# Altium footprint library L-Stick.PcbLib: 29 footprints (part 2 of 2)
Each footprint in its own frame and in the unit in brackets; x right, y up, seen from the top. Pads: shape width x height; smd on the part's side, far side on the other; paste and mask are expansions set on the pad; w line width, h text height; cw(c..) or ccw(c..) is an arc to the next point about the centre after c.
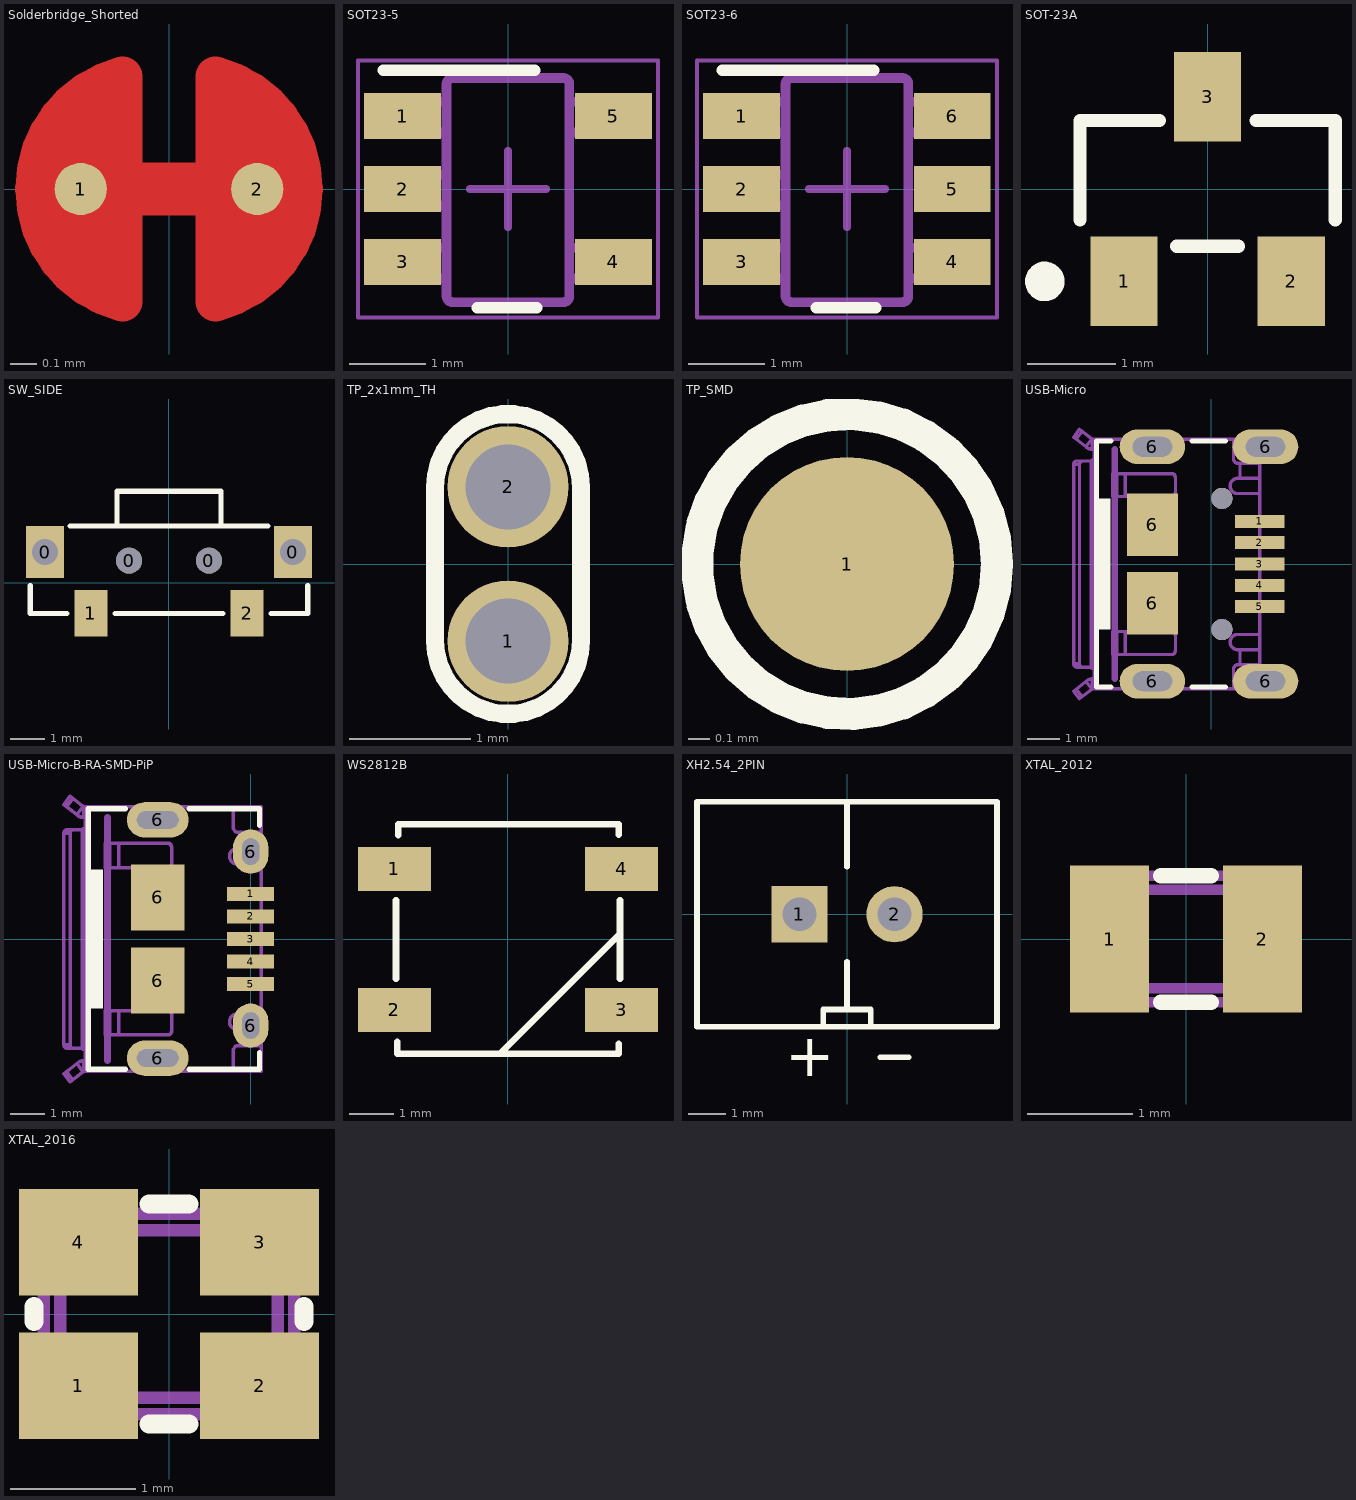
[diagram p1: the footprints below, top view; thin cyan lines are the x and y axes]

## Solderbridge_Shorted [mm]
pads (2):
  round 0.2 smd paste-10: 1(-0.338,0) 2(0.338,0)
Top Layer:
  region: 0.102,0.432 0.178,0.505 0.296,0.467 0.361,0.424 0.434,0.351 0.488,0.292 0.546,0.193 0.574,0.099 0.569,-0.122 0.544,-0.193 0.46,-0.33 0.376,-0.411 0.284,-0.469 0.183,-0.5 0.132,-0.483 0.102,-0.43
  region: -0.102,-0.432 -0.178,-0.505 -0.296,-0.467 -0.361,-0.424 -0.434,-0.351 -0.488,-0.292 -0.546,-0.193 -0.574,-0.099 -0.569,0.122 -0.544,0.193 -0.46,0.33 -0.376,0.411 -0.284,0.469 -0.183,0.5 -0.132,0.483 -0.102,0.43
  lines w0.152: -0.178,-0.431 cw(c-0.068,0) -0.178,0.431 ; 0.178,-0.431 ccw(c0.068,0) 0.178,0.431
  lines w0.203: -0.338,0 0.338,0
Top Solder:
  circle w0.61: c-0.028,0 r0.279
  circle w0.61: c0.028,0 r0.279

## SOT23-5 [mm]
pads (5):
  rect 1x0.6 smd paste+0 mask+0.051: 1(-1.375,0.95) 2(-1.375,0) 3(-1.375,-0.95) 4(1.375,-0.95) 5(1.375,0.95)
Top Overlay:
  lines w0.15: -1.625,1.55 0.35,1.55 ; -0.4,-1.55 0.375,-1.55
Mechanical 13:
  lines w0.127: -0.801,1.371 cw(c-0.725,1.37) -0.725,1.446 ; -0.801,1.37 -0.801,-1.399 -0.801,-1.4 ccw(c-0.725,-1.399) -0.725,-1.475 ; -0.801,1.37 -0.801,1.371 ; -0.725,-1.475 -0.725,-1.475 ; -0.725,-1.475 0.723,-1.475 0.724,-1.475 ccw(c0.723,-1.399) 0.799,-1.4 0.799,-1.399 0.799,1.37 ; -0.725,1.446 0.723,1.446 0.724,1.446 cw(c0.723,1.37) 0.799,1.371 ; -0.725,1.446 -0.725,1.446 ; 0.799,1.37 0.799,1.371 ; -1.423,-1.167 -1.199,-1.167 -1.105,-1.167 -1.088,-1.167 -0.835,-1.167 -0.801,-1.167 -0.801,-0.767 -0.835,-0.767 -1.088,-0.767 -1.105,-0.767 -1.199,-0.767 -1.423,-0.767 -1.423,-1.167 ; -1.423,-0.215 -1.199,-0.215 -1.105,-0.215 -1.088,-0.215 -0.835,-0.215 -0.801,-0.215 -0.801,0.186 -0.835,0.186 -1.088,0.186 -1.105,0.186 -1.199,0.186 -1.423,0.186 -1.423,-0.215 ; -1.423,0.738 -1.199,0.738 -1.105,0.738 -1.088,0.738 -0.835,0.738 -0.801,0.738 -0.801,1.138 -0.835,1.138 -1.088,1.138 -1.105,1.138 -1.199,1.138 -1.423,1.138 -1.423,0.738 ; 0.799,-1.167 0.799,-0.767 0.834,-0.767 1.087,-0.767 1.103,-0.767 1.198,-0.767 1.422,-0.767 1.422,-1.167 1.198,-1.167 1.103,-1.167 1.087,-1.167 0.834,-1.167 0.799,-1.167 ; 0.799,0.738 0.799,1.138 0.834,1.138 1.087,1.138 1.103,1.138 1.198,1.138 1.422,1.138 1.422,0.738 1.198,0.738 1.103,0.738 1.087,0.738 0.834,0.738 0.799,0.738
Mechanical 15:
  lines w0.05: -1.956,-1.676 1.956,-1.676 1.956,1.676 -1.956,1.676 -1.956,-1.676
  lines w0.1: -0.5,0 0.5,0 ; 0,-0.5 0,0.5
3D body: height 1.05, standoff -0.05, extent -1.23,-1.5 1.27,1.5

## SOT23-6 [mm]
pads (6):
  rect 1x0.6 smd paste+0 mask+0.051: 1(-1.375,0.95) 2(-1.375,0) 3(-1.375,-0.95) 4(1.372,-0.95) 5(1.372,0) 6(1.372,0.95)
Top Overlay:
  lines w0.15: -1.625,1.55 0.35,1.55 ; -0.4,-1.55 0.375,-1.55
Mechanical 13:
  lines w0.127: -0.801,1.371 cw(c-0.725,1.37) -0.725,1.446 ; -0.801,1.37 -0.801,-1.399 -0.801,-1.4 ccw(c-0.725,-1.399) -0.725,-1.475 ; -0.801,1.37 -0.801,1.371 ; -0.725,-1.475 -0.725,-1.475 ; -0.725,-1.475 0.723,-1.475 0.724,-1.475 ccw(c0.723,-1.399) 0.799,-1.4 0.799,-1.399 0.799,1.37 ; -0.725,1.446 0.723,1.446 0.724,1.446 cw(c0.723,1.37) 0.799,1.371 ; -0.725,1.446 -0.725,1.446 ; 0.799,1.37 0.799,1.371 ; -1.423,-1.167 -1.199,-1.167 -1.105,-1.167 -1.088,-1.167 -0.835,-1.167 -0.801,-1.167 -0.801,-0.767 -0.835,-0.767 -1.088,-0.767 -1.105,-0.767 -1.199,-0.767 -1.423,-0.767 -1.423,-1.167 ; -1.423,-0.215 -1.199,-0.215 -1.105,-0.215 -1.088,-0.215 -0.835,-0.215 -0.801,-0.215 -0.801,0.186 -0.835,0.186 -1.088,0.186 -1.105,0.186 -1.199,0.186 -1.423,0.186 -1.423,-0.215 ; -1.423,0.738 -1.199,0.738 -1.105,0.738 -1.088,0.738 -0.835,0.738 -0.801,0.738 -0.801,1.138 -0.835,1.138 -1.088,1.138 -1.105,1.138 -1.199,1.138 -1.423,1.138 -1.423,0.738 ; 0.799,-1.167 0.799,-0.767 0.834,-0.767 1.087,-0.767 1.103,-0.767 1.198,-0.767 1.422,-0.767 1.422,-1.167 1.198,-1.167 1.103,-1.167 1.087,-1.167 0.834,-1.167 0.799,-1.167 ; 0.799,0.738 0.799,1.138 0.834,1.138 1.087,1.138 1.103,1.138 1.198,1.138 1.422,1.138 1.422,0.738 1.198,0.738 1.103,0.738 1.087,0.738 0.834,0.738 0.799,0.738
Mechanical 15:
  lines w0.05: -1.956,-1.676 1.956,-1.676 1.956,1.676 -1.956,1.676 -1.956,-1.676
  lines w0.1: -0.5,0 0.5,0 ; 0,-0.5 0,0.5
3D body: height 1.1, standoff 0, extent -1.5,-1.551 1.5,1.449

## SOT-23A [mil]
pads (3):
  rect 30x40 smd: 1(-37.4,-41.34) 2(37.4,-41.34) 3(0,41.34)
Top Overlay:
  circle w9.84: c-72.83,-41.34 r3.94
  lines w5.91: -57.09,-13.78 -57.09,30.66 -21.65,30.66 ; -13.78,-25.59 13.78,-25.59 ; 21.65,30.66 57.09,30.66 57.09,-13.78
3D body: height 39.37, standoff 0, extent -57.47,-41.06 57.49,51.07

## SW_SIDE [mm]
pads (6):
  rect 1.1x1.5 hole 0.75: 0(-3.575,0.885) 0(3.575,0.885)
  round 0.75 hole 0.75: 0(-1.15,0.635) 0(1.15,0.635)
  rect 0.95x1.34 smd: 1(-2.25,-0.885) 2(2.25,-0.885)
Top Overlay:
  lines w0.15: -4,-0.085 -4,-0.885 -2.95,-0.885 ; -2.85,1.635 2.85,1.635 ; -1.55,-0.885 1.55,-0.885 ; -1.5,1.635 -1.5,2.635 1.5,2.635 1.5,1.635 ; 2.95,-0.885 4,-0.885 4,-0.085

## TP_2x1mm_TH [mm]
pads (2):
  round 1 hole 0.7: 1(0,-0.635) 2(0,0.635)
Top Overlay:
  lines w0.15: -0.6,-0.635 ccw(c0,-0.635) 0.6,-0.635 0.6,0.635 ccw(c0,0.635) -0.6,0.635 -0.6,-0.635

## TP_SMD [mm]
pads (1):
  round 1 smd paste-5: 1(0,0)
Top Overlay:
  circle w0.15: c0,0 r0.7

## USB-Micro [mm]
pads (13):
  rect 1.5x0.4 smd: 1(1.488,1.3) 2(1.488,0.65) 3(1.488,0) 4(1.488,-0.65) 5(1.488,-1.3)
  oval 2x1.05 hole 0.6 slot 1.2 at 0 deg: 6(-1.787,-3.575) 6(-1.787,3.575) 6(1.663,-3.575) 6(1.663,3.575)
  rect 1.55x1.9 smd: 6(-1.787,-1.2) 6(-1.787,1.2)
  round 0.65 hole 0.65: ""(0.333,-2) ""(0.333,2)
Top Overlay:
  rectangle: -3.562,-2 -3.062,2
  lines w0.15: -3.487,-3.75 -3.048,-3.75 ; -3.487,3.75 -3.048,3.75 ; -0.587,-3.75 0.45,-3.75 ; -0.587,3.75 0.45,3.75
  lines w0.152: -3.487,-3.75 -3.487,3.75
Mechanical 7:
  drawing of 2738 lines, arcs and shapes, not listed
Mechanical 15:
  lines w0.2: -2.937,-3.5 -2.937,3.5
3D body: height 2.67, standoff -0.27, extent -3.923,-3.99 1.507,3.99

## USB-Micro-B-RA-SMD-PiP [mm]
pads (11):
  rect 1.35x0.4 smd: 1(0,1.3) 2(0,0.65) 3(0,0) 4(0,-0.65) 5(0,-1.3)
  oval 1.778x1.016 hole 0.5 slot 1.2 at 0 deg: 6(-2.675,-3.427) 6(-2.675,3.427)
  rect 1.55x1.9 smd: 6(-2.675,-1.2) 6(-2.675,1.2)
  oval 1.016x1.27 hole 0.5 slot 0.762 at 90 deg: 6(0,-2.489) 6(0,2.515)
Top Overlay:
  rectangle: -4.75,-2 -4.25,2
  lines w0.15: -4.675,-3.75 -3.6,-3.75 ; -4.675,3.75 -3.6,3.75 ; -1.775,-3.75 0.25,-3.75 0.25,-3.275 ; -1.775,3.75 0.25,3.75 0.25,3.275
  lines w0.152: -4.675,-3.75 -4.675,3.75
Mechanical 7:
  drawing of 2738 lines, arcs and shapes, not listed
Mechanical 15:
  lines w0.2: -4.125,-3.5 -4.125,3.5
3D body: height 2.72, standoff -0.59, extent -5.28,-4.1 0.15,4.1

## WS2812B [mm]
pads (4):
  rect 1.651x1 smd: 1(-2.577,1.6) 2(-2.577,-1.6) 3(2.577,-1.6) 4(2.577,1.6)
Top Overlay:
  lines w0.15: -2.54,-0.889 -2.54,0.889 ; -2.51,-2.319 -2.51,-2.591 -2.507,-2.593 2.51,-2.593 2.51,-2.367 ; -2.489,2.362 -2.489,2.611 2.512,2.611 2.512,2.38 ; -0.165,-2.578 2.54,0.127 ; 2.54,-0.889 2.54,0.889
3D body: height 1.55, standoff -0.02, extent -2.7,-2.5 2.7,2.5

## XH2.54_2PIN [mm] "Battery; 2 Leads"
pads (2):
  rect 1.5x1.5 hole 0.9: 1(-1.27,0)
  round 1.5 hole 0.9: 2(1.27,0)
Top Overlay:
  lines w0.15: -0.635,-3 -0.635,-2.54 0.635,-2.54 0.635,-3 ; 0,-2.54 0,-1.27 ; 0,1.27 0,3 ; 0.889,-3.81 1.651,-3.81 ; -4,-3 -4,3 4,3 4,-3 -4,-3
  text "+" at -1.651,-4.318 h1.15
3D body: height 7, standoff -4, extent -4,-2.977 4,3.023

## XTAL_2012 [mm]
pads (2):
  rect 0.75x1.4 smd: 1(-0.725,0) 2(0.725,0)
Top Overlay:
  lines w0.15: -0.24,-0.6 0.24,-0.6 ; -0.24,0.6 0.24,0.6
Mechanical 7:
  lines w0.1: -1,-0.5 cw(c-1,-0.6) -0.9,-0.6 0.9,-0.6 cw(c1,-0.6) 1,-0.5 1,0.5 cw(c1,0.6) 0.9,0.6 -0.9,0.6 cw(c-1,0.6) -1,0.5 -1,-0.5 ; -0.87,-0.37 ccw(c-0.77,-0.37) -0.77,-0.47 0.77,-0.47 ccw(c0.77,-0.37) 0.87,-0.37 0.87,0.37 ccw(c0.77,0.37) 0.77,0.47 -0.77,0.47 ccw(c-0.77,0.37) -0.87,0.37 -0.87,-0.37
3D body: height 0.6, standoff 0.15, extent -0.825,-0.4 0.825,0.4
3D body: height 0.6, standoff 0, extent -1,-0.61 1,0.61

## XTAL_2016 [mm]
pads (4):
  rect 0.95x0.85 smd: 1(-0.725,-0.575) 2(0.725,-0.575) 3(0.725,0.575) 4(-0.725,0.575)
Top Overlay:
  lines w0.15: -1.08,-0.06 -1.08,0.06 ; -0.16,-0.88 0.16,-0.88 ; -0.16,0.88 0.16,0.88 ; 1.08,-0.06 1.08,0.06
Mechanical 7:
  lines w0.1: -1,-0.7 cw(c-1,-0.8) -0.9,-0.8 0.9,-0.8 cw(c1,-0.8) 1,-0.7 1,0.7 cw(c1,0.8) 0.9,0.8 -0.9,0.8 cw(c-1,0.8) -1,0.7 -1,-0.7 ; -0.87,-0.57 ccw(c-0.77,-0.57) -0.77,-0.67 0.77,-0.67 ccw(c0.77,-0.57) 0.87,-0.57 0.87,0.57 ccw(c0.77,0.57) 0.77,0.67 -0.77,0.67 ccw(c-0.77,0.57) -0.87,0.57 -0.87,-0.57
3D body: height 0.56, standoff 0, extent -1.05,-0.85 1.05,0.85
3D body: height 0.56, standoff 0.15, extent -0.7,-0.65 0.7,0.65